# EAGLE library part TXB0102 (library pixhawk2)
2-BIT BIDIRECTIONAL VOLTAGE-LEVEL TRANSLATOR WITH AUTO DIRECTION SENSING AND ±15-kV ESD PROTECTION
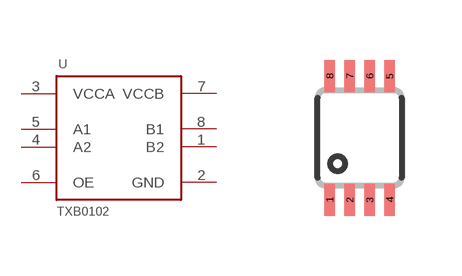
[diagram p9: symbol with the pads of TI-DCU; footprint TI-DCU]

Designator prefix U

## TXB0102DCUR  [TI-DCU]
1  B2
2  GND  sup
3  VCCA  in
4  A2
5  A1
6  OE  in
7  VCCB  in
8  B1

## Footprint TI-DCU (pad centres in mm)
smd 0.27 x 0.8: 1 -0.75,-1.55; 2 -0.25,-1.55; 3 0.25,-1.55; 4 0.75,-1.55; 5 0.75,1.55; 6 0.25,1.55; 7 -0.25,1.55; 8 -0.75,1.55